# Altium schematic symbol library Crystals Crystals.SchLib: 5 symbols
Pins are listed as number, name and electrical type; pins without a type are passive.

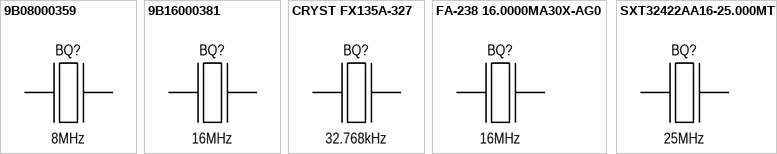
[diagram p0: symbols 9B08000359 to SXT32422AA16-25.000MT]

## 9B08000359
designator BQ?, comment 8MHz
Crystal 8MHz HC-49; Manufacturer: TXC; Part name: 9B08000359; Group: Discrete; ESR: 80 Ohms; Frequency tolerance: ±30ppm; Load capacitance: 20pF; Package: HC-49; Frequency: 8MHz; Height: 3.70mm; Operating temperature: -40°C +85°C; Mounting type: Surface mount; Dimension: 11.50mm x 5.00mm
footprint Crystal HC-49S
pins: 1, 2

## 9B16000381
designator BQ?, comment 16MHz
Crystal 16MHz HC-49; Manufacturer: TXC; Part name: 9B16000381; Group: Discrete; ESR: 30 Ohms; Frequency tolerance: ±20ppm; Load capacitance: 20pF; Package: HC-49; Frequency: 16MHz; Height: 3.70mm; Operating temperature: -40°C +85°C; Mounting type: Surface mount; Dimension: 11.50mm x 5.00mm
footprint Crystal HC-49S
pins: 1, 2

## CRYST FX135A-327
designator BQ?, comment 32.768kHz
Crystal 32.768kHz SMD 2P 3.2x1.5; Manufacturer: Fox Electronics; Part name: FX135A-327; Group: Discrete; Frequency tolerance: ±20ppm; ESR: 70 kOhms; Load capacitance: 12.5pF; Package: Crystal SMD 2P 3.2x1.5; Frequency: 32.768kHz; Dimension: 3.20mm x 1.50mm; Height: 0.90mm; Operating temperature: -40°C +85°C; Mounting type: Surface mount
footprint Crystal SMD 2P 3.2x1.5 (Crystals 3.2x1.5x0.9mm)
pins: 1, 2

## FA-238 16.0000MA30X-AG0
designator BQ?, comment 16MHz
Crystal 16MHz SMD 4P 3.2x2.5; Manufacturer: EPSON; Part name: FA-238 16.0000MA30X-AG0; Group: Discrete; ESR: 80 Ohms; Frequency tolerance: ±20ppm; Load capacitance: 7pF; Package: Crystal SMD 4P 3.2x2.5; Frequency: 16MHz; Height: 0.70mm; Operating temperature: -40°C +85°C; Mounting type: Surface mount; Dimension: 3.20mm x 2.50mm
footprint Crystal SMD 4P 3.2x2.5 (Crystals 3.2x2.5x0.7mm)
pins: 1, 2 hidden to GND, 3, 4 hidden to GND

## SXT32422AA16-25.000MT
designator BQ?, comment 25MHz
Crystal 25MHz SMD 4P 3.2x2.5; Manufacturer: Suntsu; Part name: SXT32422AA16-25.000MT; Group: Discrete; ESR: 80 Ohms; Frequency tolerance: ±50ppm; Load capacitance: 18pF; Package: Crystal SMD 4P 3.2x2.5; Frequency: 25MHz; Height: 0.80mm; Operating temperature: -40°C +85°C; Mounting type: Surface mount; Dimension: 3.20mm x 2.50mm
footprint Crystal SMD 4P 3.2x2.5 (Crystals 3.2x2.5x0.7mm)
pins: 1, 2 hidden to GND, 3, 4 hidden to GND